# Altium footprint library fonix.PcbLib: 1 footprints
Each footprint in its own frame and in the unit in brackets; x right, y up, seen from the top. Pads: shape width x height; smd on the part's side, far side on the other; paste and mask are expansions set on the pad; w line width, h text height; cw(c..) or ccw(c..) is an arc to the next point about the centre after c.
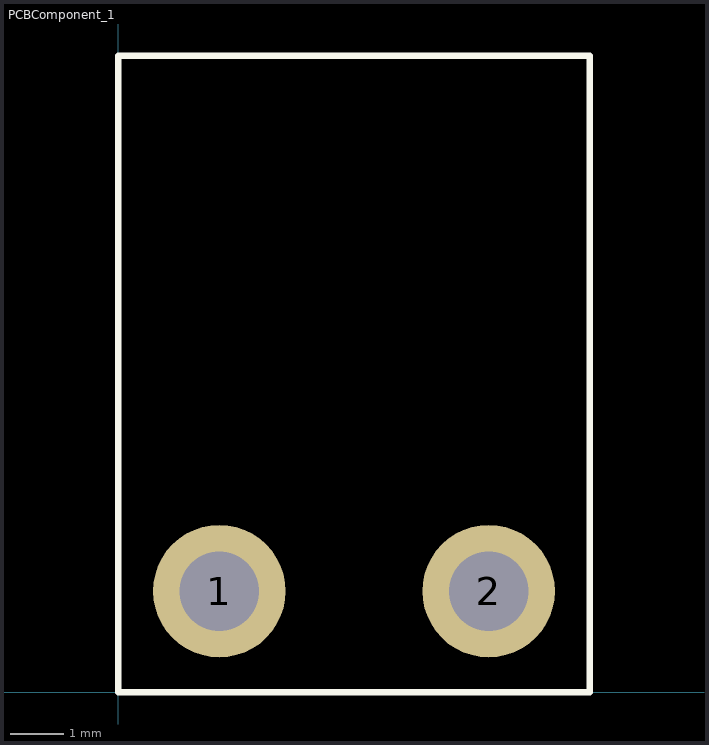
[diagram p0: the footprint, top view; thin cyan lines are the x and y axes]

## PCBComponent_1 [mm]
pads (2):
  round 2.5 hole 1.5: 1(1.905,1.905) 2(6.985,1.905)
Top Overlay:
  lines w0.127: 0,0 0,12 8.89,12 8.89,0 0,0